# EAGLE library part 21M15D (library crystal)
Monolithic Crystal Filters Source: www.vanlong.com
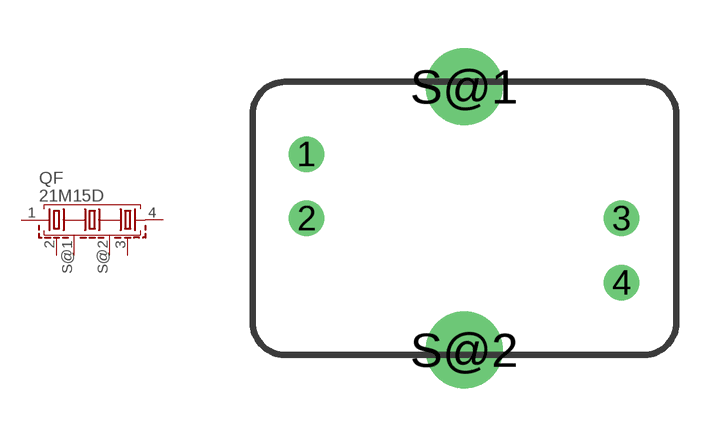
[diagram p6: symbol with the pads of M-2; footprint M-2]

Designator prefix QF

## 21M15D (OC_FARNELL: unknown; OC_NEWARK: unknown)  [M-2]
1  1  pas
2  2  pas
3  3  pas
4  4  pas
S@1  S  pas
S@2  S  pas

## Footprint M-2 (pad centres in mm)
Monolithic Crystal Filters Source: www.vanlong.com
drill 0.6 pad 1.016 round: 1 -4.9,2; 2 -4.9,0; 3 4.9,0; 4 4.9,-2
drill 1.6 pad 1.93 round: S@1 0,4.1; S@2 0,-4.1